# Altium integrated library NSC Discrete BJT.IntLib: 19 symbols
Pins are listed as number, name and electrical type; pins without a type are passive.

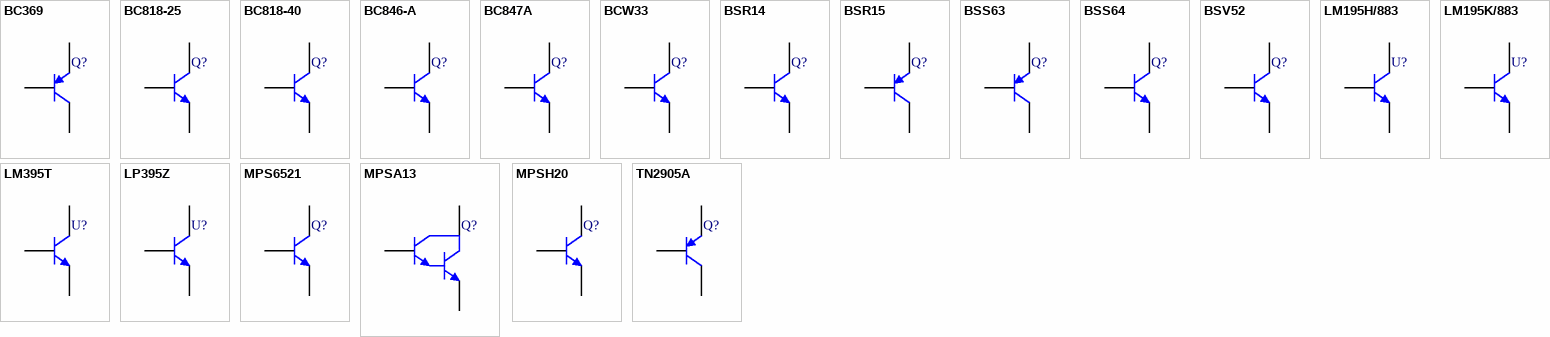
[diagram p0: symbols BC369 to TN2905A]

## BC369
designator Q?
Bipolar Pro Electron; PackageDocument: 1989; Published: 8-Jun-2000; LatestRevisionDate: 17-Jul-2002; LatestRevisionNote: Re-released for DXP Platform.; DatasheetDocument: 1989; PackageReference: TO-92; Publisher: Altium Limited; ComponentLink1Description: Manufacturer Link; ComponentLink1URL: http://www.national.com/
footprint TO-92 (TO, Flat Index; 3 In-Line, Axial Leads; Body Dia. 4.6mm; Leads 0.41 x 0.39 mm (max))
simulation model BC369 (PNP)
signal-integrity model BC369
pins: 1 B, 2 C, 3 E

## BC818-25
designator Q?
Bipolar Pro Electron; PackageDocument: 1989; Published: 8-Jun-2000; LatestRevisionDate: 23-Sep-2002; LatestRevisionNote: Sim Model Pin Map changed.; DatasheetDocument: 1989; PackageReference: TO-236AB; Publisher: Altium Limited; Code_JEDEC: TO-236-AB; ComponentLink1Description: Manufacturer Link; ComponentLink1URL: http://www.national.com/
footprint TO-236AB (SOT-23; 3 Leads; Body 3.0 x 2.5 mm, inc. leads (LxW max), Alternate Lead Configuration)
simulation model BC818-25 (NPN)
signal-integrity model BC818-25
pins: 1 C, 2 B, 3 E

## BC818-40
designator Q?
Bipolar Pro Electron; PackageDocument: 1989; Published: 8-Jun-2000; LatestRevisionDate: 23-Sep-2002; LatestRevisionNote: Sim Model Pin Map changed.; DatasheetDocument: 1989; PackageReference: TO-236AB; Publisher: Altium Limited; Code_JEDEC: TO-236-AB; ComponentLink1Description: Manufacturer Link; ComponentLink1URL: http://www.national.com/
footprint TO-236AB (SOT-23; 3 Leads; Body 3.0 x 2.5 mm, inc. leads (LxW max), Alternate Lead Configuration)
simulation model BC818-40 (NPN)
signal-integrity model BC818-40
pins: 1 C, 2 B, 3 E

## BC846-A
designator Q?
Bipolar Pro Electron; PackageDocument: 1989; Published: 8-Jun-2000; LatestRevisionDate: 23-Sep-2002; LatestRevisionNote: Sim Model Pin Map changed.; DatasheetDocument: 1989; PackageReference: TO-236AB; Publisher: Altium Limited; Code_JEDEC: TO-236-AB; ComponentLink1Description: Manufacturer Link; ComponentLink1URL: http://www.national.com/
footprint TO-236AB (SOT-23; 3 Leads; Body 3.0 x 2.5 mm, inc. leads (LxW max), Alternate Lead Configuration)
simulation model BC846A (NPN)
signal-integrity model BC846-A
pins: 1 C, 2 B, 3 E

## BC847A
designator Q?
Bipolar Pro Electron; PackageDocument: 1989; Published: 8-Jun-2000; LatestRevisionDate: 23-Sep-2002; LatestRevisionNote: Sim Model Pin Map changed.; DatasheetDocument: 1989; PackageReference: TO-236AB; Publisher: Altium Limited; Code_JEDEC: TO-236-AB; ComponentLink1Description: Manufacturer Link; ComponentLink1URL: http://www.national.com/
footprint TO-236AB (SOT-23; 3 Leads; Body 3.0 x 2.5 mm, inc. leads (LxW max), Alternate Lead Configuration)
simulation model BC847A (NPN)
signal-integrity model BC847A
pins: 1 C, 2 B, 3 E

## BCW33
designator Q?
Bipolar Pro Electron; PackageDocument: 1989; Published: 8-Jun-2000; LatestRevisionDate: 23-Sep-2002; LatestRevisionNote: Sim Model Pin Map changed.; DatasheetDocument: 1989; PackageReference: TO-236AB; Publisher: Altium Limited; Code_JEDEC: TO-236-AB; ComponentLink1Description: Manufacturer Link; ComponentLink1URL: http://www.national.com/
footprint TO-236AB (SOT-23; 3 Leads; Body 3.0 x 2.5 mm, inc. leads (LxW max), Alternate Lead Configuration)
simulation model BCW33 (NPN)
signal-integrity model BCW33
pins: 1 C, 2 B, 3 E

## BSR14
designator Q?
Bipolar Pro Electron; PackageDocument: 1989; Published: 8-Jun-2000; LatestRevisionDate: 23-Sep-2002; LatestRevisionNote: Sim Model Pin Map changed.; DatasheetDocument: 1989; PackageReference: TO-236AB; Publisher: Altium Limited; Code_JEDEC: TO-236-AB; ComponentLink1Description: Manufacturer Link; ComponentLink1URL: http://www.national.com/
footprint TO-236AB (SOT-23; 3 Leads; Body 3.0 x 2.5 mm, inc. leads (LxW max), Alternate Lead Configuration)
simulation model BSR14 (NPN)
signal-integrity model BSR14
pins: 1 C, 2 B, 3 E

## BSR15
designator Q?
Bipolar Pro Electron; PackageDocument: 1989; Published: 8-Jun-2000; LatestRevisionDate: 23-Sep-2002; LatestRevisionNote: Sim Model Pin Map changed.; DatasheetDocument: 1989; PackageReference: TO-236AB; Publisher: Altium Limited; Code_JEDEC: TO-236-AB; ComponentLink1Description: Manufacturer Link; ComponentLink1URL: http://www.national.com/
footprint TO-236AB (SOT-23; 3 Leads; Body 3.0 x 2.5 mm, inc. leads (LxW max), Alternate Lead Configuration)
simulation model BSR15 (PNP)
signal-integrity model BSR15
pins: 1 C, 2 B, 3 E

## BSS63
designator Q?
Bipolar Pro Electron; PackageDocument: 1989; Published: 8-Jun-2000; LatestRevisionDate: 23-Sep-2002; LatestRevisionNote: Sim Model Pin Map changed.; DatasheetDocument: 1989; PackageReference: TO-236AB; Publisher: Altium Limited; Code_JEDEC: TO-236-AB; ComponentLink1Description: Manufacturer Link; ComponentLink1URL: http://www.national.com/
footprint TO-236AB (SOT-23; 3 Leads; Body 3.0 x 2.5 mm, inc. leads (LxW max), Alternate Lead Configuration)
simulation model BSS63 (PNP)
signal-integrity model BSS63
pins: 1 C, 2 B, 3 E

## BSS64
designator Q?
Bipolar Pro Electron; PackageDocument: 1989; Published: 8-Jun-2000; LatestRevisionDate: 23-Sep-2002; LatestRevisionNote: Sim Model Pin Map changed.; DatasheetDocument: 1989; PackageReference: TO-236AB; Publisher: Altium Limited; Code_JEDEC: TO-236-AB; ComponentLink1Description: Manufacturer Link; ComponentLink1URL: http://www.national.com/
footprint TO-236AB (SOT-23; 3 Leads; Body 3.0 x 2.5 mm, inc. leads (LxW max), Alternate Lead Configuration)
simulation model BSS64 (NPN)
signal-integrity model BSS64
pins: 1 C, 2 B, 3 E

## BSV52
designator Q?
Bipolar Pro Electron; PackageDocument: 1989; Published: 8-Jun-2000; LatestRevisionDate: 23-Sep-2002; LatestRevisionNote: Sim Model Pin Map changed.; DatasheetDocument: 1989; PackageReference: TO-236AB; Publisher: Altium Limited; Code_JEDEC: TO-236-AB; ComponentLink1Description: Manufacturer Link; ComponentLink1URL: http://www.national.com/
footprint TO-236AB (SOT-23; 3 Leads; Body 3.0 x 2.5 mm, inc. leads (LxW max), Alternate Lead Configuration)
simulation model BSV52 (NPN)
signal-integrity model BSV52
pins: 1 C, 2 B, 3 E

## LM195H/883
designator U?
Ultra-Reliable Power Transistor; PackageDocument: 1995; Note: Case is Emitter.; Published: 15-Apr-2002; DatasheetDocument: Jun-1999; PackageReference: H03B; Publisher: Altium Limited; ComponentLink1Description: Manufacturer Link; ComponentLink1URL: http://www.national.com/; ComponentLink2Description: Datasheet; ComponentLink2URL: http://www.national.com/ds.cgi/LM/LM195.pdf
footprint H03B (3-Lead Metal Can, 0.2" Diameter P.C.)
signal-integrity model LM195H/883
pins: 1 E, 2 B, 3 C

## LM195K/883
designator U?
Ultra-Reliable Power Transistor; PackageDocument: 2000; Note: Case is Emitter.; Published: 15-Apr-2002; DatasheetDocument: Jun-1999; PackageReference: K02A; Publisher: Altium Limited; ComponentLink1Description: Manufacturer Link; ComponentLink1URL: http://www.national.com/; ComponentLink2Description: Datasheet; ComponentLink2URL: http://www.national.com/ds.cgi/LM/LM195.pdf
footprint K02A (Oval Flange Mount with (2) Offset Leads; Pin Spacing 10.93 mm; Lead Dia. 1.09 mm (max))
signal-integrity model LM195K/883
pins: 1 B, 2 C, 3 E

## LM395T
designator U?
Ultra-Reliable Power Transistor; PackageDocument: 1995; Note: Case is Emitter.; Published: 15-Apr-2002; DatasheetDocument: Jun-1999; PackageReference: T03B; Publisher: Altium Limited; ComponentLink1Description: Manufacturer Link; ComponentLink1URL: http://www.national.com/; ComponentLink2Description: Datasheet; ComponentLink2URL: http://www.national.com/ds.cgi/LM/LM195.pdf
footprint T03B (TO, Thru-Hole, Vertical, Heatsink Mounted; 3 In-Line Leads; Pitch 2.54 mm)
signal-integrity model LM395T
pins: 1 B, 2 E, 3 C

## LP395Z
designator U?
Ultra-Reliable Power Transistor; PackageDocument: 2000; Published: 15-Apr-2002; DatasheetDocument: 1993; PackageReference: Z03A; Publisher: Altium Limited; ComponentLink1Description: Manufacturer Link; ComponentLink1URL: http://www.national.com/; ComponentLink2Description: Datasheet; ComponentLink2URL: http://www.national.com/ds.cgi/LP/LP395.pdf
footprint Z03A (TO, Flat Index; 3 In-Line, Axial Leads; Body Dia. 4.6mm; Leads 0.53 x 0.39 mm (max))
signal-integrity model LP395Z
pins: 1 C, 2 B, 3 E

## MPS6521
designator Q?
NPN Transistor - General Purpose Amplifier and Switch; PackageDocument: 1989; Published: 8-Jun-2000; LatestRevisionDate: 17-Jul-2002; LatestRevisionNote: Re-released for DXP Platform.; DatasheetDocument: 1989; PackageReference: TO-92; Publisher: Altium Limited; ComponentLink1Description: Manufacturer Link; ComponentLink1URL: http://www.national.com/
footprint TO-92 (TO, Flat Index; 3 In-Line, Axial Leads; Body Dia. 4.6mm; Leads 0.41 x 0.39 mm (max))
simulation model MPS6521 (NPN)
signal-integrity model MPS6521
pins: 1 C, 2 B, 3 E

## MPSA13
designator Q?
NPN Transistor - Darlington; PackageDocument: 1989; Published: 8-Jun-2000; LatestRevisionDate: 17-Jul-2002; LatestRevisionNote: Re-released for DXP Platform.; DatasheetDocument: 1989; PackageReference: TO-92; Publisher: Altium Limited; ComponentLink1Description: Manufacturer Link; ComponentLink1URL: http://www.national.com/
footprint TO-92 (TO, Flat Index; 3 In-Line, Axial Leads; Body Dia. 4.6mm; Leads 0.41 x 0.39 mm (max))
simulation model MPSA13 (SUBCKT)
pins: 1 C, 2 B, 3 E

## MPSH20
designator Q?
NPN Transistor - RF Amplifier and  Oscillator; PackageDocument: 1989; Published: 8-Jun-2000; LatestRevisionDate: 17-Jul-2002; LatestRevisionNote: Re-released for DXP Platform.; DatasheetDocument: 1989; PackageReference: TO-92; Publisher: Altium Limited; ComponentLink1Description: Manufacturer Link; ComponentLink1URL: http://www.national.com/
footprint TO-92 (TO, Flat Index; 3 In-Line, Axial Leads; Body Dia. 4.6mm; Leads 0.41 x 0.39 mm (max))
simulation model MPSH20 (NPN)
signal-integrity model MPSH20
pins: 1 C, 2 E, 3 B

## TN2905A
designator Q?
PNP Transistor - General Purpose Amplifier and Switch; PackageDocument: 1989; Published: 8-Jun-2000; LatestRevisionDate: 23-Sep-2002; LatestRevisionNote: Sim Model Pin Map changed.; DatasheetDocument: 1989; PackageReference: TO-237; Publisher: Altium Limited; ComponentLink1Description: Manufacturer Link; ComponentLink1URL: http://www.national.com/
footprint TO-237 (TO, Flat Index; 3 In-Line, Axial Leads; Body Dia. 4.6mm; Leads 0.56 x 0.39 mm (max))
simulation model TN2905A (PNP)
signal-integrity model TN2905A
pins: 1 C, 2 B, 3 E